# Altium footprint library TSOP86.PcbLib: 1 footprints
Each footprint in its own frame and in the unit in brackets; x right, y up, seen from the top. Pads: shape width x height; smd on the part's side, far side on the other; paste and mask are expansions set on the pad; w line width, h text height; cw(c..) or ccw(c..) is an arc to the next point about the centre after c.
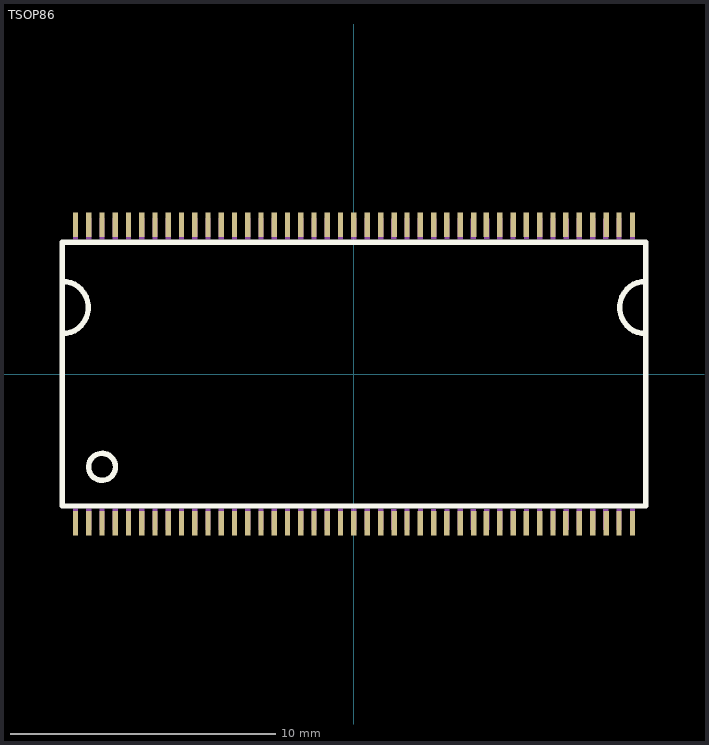
[diagram p0: the footprint, top view; thin cyan lines are the x and y axes]

## TSOP86 [mil]
pads (86):
  rect 8x36 smd: 1(-413.39,-221.65) 2(-393.7,-221.65) 3(-374.02,-221.65) 4(-354.33,-221.65) 5(-334.65,-221.65) 6(-314.96,-221.65) 7(-295.28,-221.65) 8(-275.59,-221.65) 9(-255.91,-221.65) 10(-236.22,-221.65) 11(-216.54,-221.65) 12(-196.85,-221.65) 13(-177.17,-221.65) 14(-157.48,-221.65) 15(-137.8,-221.65) 16(-118.11,-221.65) 17(-98.43,-221.65) 18(-78.74,-221.65) 19(-59.06,-221.65) 20(-39.37,-221.65) 21(-19.68,-221.65) 22(0,-221.65) 23(20,-221.65) 24(40,-221.65) 25(60,-221.65) 26(79,-221.65) 27(99,-221.65) 28(119,-221.65) 29(138,-221.65) 30(158,-221.65) 31(178,-221.65) 32(197,-221.65) 33(217,-221.65) 34(237,-221.65) 35(256,-221.65) 36(276,-221.65) 37(296,-221.65) 38(315,-221.65) 39(335,-221.65) 40(355,-221.65) 41(375,-221.65) 42(394,-221.65) 43(414,-221.65) 44(414,222) 45(394,222) 46(375,222) 47(355,222) 48(335,222) 49(315,222) 50(296,222) 51(276,222) 52(256,222) 53(237,222) 54(217,222) 55(197,222) 56(178,222) 57(158,222) 58(138,222) 59(119,222) 60(99,222) 61(79,222) 62(60,222) 63(40,222) 64(20,222) 65(0,222) 66(-19.68,222) 67(-39.37,222) 68(-59.06,222) 69(-78.74,222) 70(-98.43,222) 71(-118.11,222) 72(-137.8,222) 73(-157.48,222) 74(-177.17,222) 75(-196.85,222) 76(-216.54,222) 77(-236.22,222) 78(-255.91,222) 79(-275.59,222) 80(-295.28,222) 81(-314.96,222) 82(-334.65,222) 83(-354.33,222) 84(-374.02,222) 85(-393.7,222) 86(-413.39,222)
Top Overlay:
  circle w8: c-374.02,-137.8 r20
  lines w8: -433.4,60 ccw(c-433.4,99) -433.4,138 ; 434,60 cw(c434,99) 434,138 ; -433.4,-196 -433.4,196 434,196 434,-196 -433.4,-196
Mechanical 16:
  region: -409.45,-231.5 -409.45,-200 -417.32,-200 -417.32,-231.5
  region: -389.76,-231.5 -389.76,-200 -397.64,-200 -397.64,-231.5
  region: -370.08,-231.5 -370.08,-200 -377.95,-200 -377.95,-231.5
  region: -350.39,-231.5 -350.39,-200 -358.27,-200 -358.27,-231.5
  region: -330.71,-231.5 -330.71,-200 -338.58,-200 -338.58,-231.5
  region: -311.02,-231.5 -311.02,-200 -318.9,-200 -318.9,-231.5
  region: -291.34,-231.5 -291.34,-200 -299.21,-200 -299.21,-231.5
  region: -271.65,-231.5 -271.65,-200 -279.53,-200 -279.53,-231.5
  region: -251.97,-231.5 -251.97,-200 -259.84,-200 -259.84,-231.5
  region: -232.28,-231.5 -232.28,-200 -240.16,-200 -240.16,-231.5
  region: -212.6,-231.5 -212.6,-200 -220.47,-200 -220.47,-231.5
  region: -192.91,-231.5 -192.91,-200 -200.79,-200 -200.79,-231.5
  region: -173.23,-231.5 -173.23,-200 -181.1,-200 -181.1,-231.5
  region: -153.54,-231.5 -153.54,-200 -161.42,-200 -161.42,-231.5
  region: -133.86,-231.5 -133.86,-200 -141.73,-200 -141.73,-231.5
  region: -114.17,-231.5 -114.17,-200 -122.05,-200 -122.05,-231.5
  region: -94.49,-231.5 -94.49,-200 -102.36,-200 -102.36,-231.5
  region: -74.8,-231.5 -74.8,-200 -82.68,-200 -82.68,-231.5
  region: -55.12,-231.5 -55.12,-200 -62.99,-200 -62.99,-231.5
  region: -35.43,-231.5 -35.43,-200 -43.31,-200 -43.31,-231.5
  region: -15.75,-231.5 -15.75,-200 -23.62,-200 -23.62,-231.5
  region: 4.06,-231.62 4.06,-199.87 -3.81,-199.87 -3.81,-231.62
  region: 23.94,-231.75 23.94,-199.75 16.06,-199.75 16.06,-231.75
  region: 43.94,-231.75 43.94,-199.75 36.06,-199.75 36.06,-231.75
  region: 63.44,-231.25 63.44,-200.25 55.56,-200.25 55.56,-231.25
  region: 82.94,-231.75 82.94,-199.75 75.06,-199.75 75.06,-231.75
  region: 102.94,-231.75 102.94,-199.75 95.06,-199.75 95.06,-231.75
  region: 122.44,-231.25 122.44,-200.25 114.56,-200.25 114.56,-231.25
  region: 142.44,-231.25 142.44,-200.25 134.56,-200.25 134.56,-231.25
  region: 161.94,-231.75 161.94,-199.75 154.06,-199.75 154.06,-231.75
  region: 181.44,-231.25 181.44,-200.25 173.56,-200.25 173.56,-231.25
  region: 201.44,-231.25 201.44,-200.25 193.56,-200.25 193.56,-231.25
  region: 220.94,-231.75 220.94,-199.75 213.06,-199.75 213.06,-231.75
  region: 240.44,-231.25 240.44,-200.25 232.56,-200.25 232.56,-231.25
  region: 260.44,-231.25 260.44,-200.25 252.56,-200.25 252.56,-231.25
  region: 279.94,-231.75 279.94,-199.75 272.06,-199.75 272.06,-231.75
  region: 299.94,-231.75 299.94,-199.75 292.06,-199.75 292.06,-231.75
  region: 319.44,-231.25 319.44,-200.25 311.56,-200.25 311.56,-231.25
  region: 338.94,-231.75 338.94,-199.75 331.06,-199.75 331.06,-231.75
  region: 358.94,-231.75 358.94,-199.75 351.06,-199.75 351.06,-231.75
  region: 378.44,-231.25 378.44,-200.25 370.56,-200.25 370.56,-231.25
  region: 397.94,-231.75 397.94,-199.75 390.06,-199.75 390.06,-231.75
  region: 417.94,-231.75 417.94,-199.75 410.06,-199.75 410.06,-231.75
  region: 418,200 418,232 410,232 410,200
  region: 398,200 398,232 390,232 390,200
  region: 378.5,200.5 378.5,231.5 370.5,231.5 370.5,200.5
  region: 359,200 359,232 351,232 351,200
  region: 339,200 339,232 331,232 331,200
  region: 319.5,200.5 319.5,231.5 311.5,231.5 311.5,200.5
  region: 300,200 300,232 292,232 292,200
  region: 280,200 280,232 272,232 272,200
  region: 260.5,200.5 260.5,231.5 252.5,231.5 252.5,200.5
  region: 240.5,200.5 240.5,231.5 232.5,231.5 232.5,200.5
  region: 221,200 221,232 213,232 213,200
  region: 201.5,200.5 201.5,231.5 193.5,231.5 193.5,200.5
  region: 181.5,200.5 181.5,231.5 173.5,231.5 173.5,200.5
  region: 162,200 162,232 154,232 154,200
  region: 142.5,200.5 142.5,231.5 134.5,231.5 134.5,200.5
  region: 122.5,200.5 122.5,231.5 114.5,231.5 114.5,200.5
  region: 103,200 103,232 95,232 95,200
  region: 83,200 83,232 75,232 75,200
  region: 63.5,200.5 63.5,231.5 55.5,231.5 55.5,200.5
  region: 44,200 44,232 36,232 36,200
  region: 24,200 24,232 16,232 16,200
  region: 4.13,200.13 4.13,231.87 -3.87,231.87 -3.87,200.13
  region: -15.69,200.25 -15.69,231.75 -23.69,231.75 -23.69,200.25
  region: -35.37,200.25 -35.37,231.75 -43.37,231.75 -43.37,200.25
  region: -55.06,200.25 -55.06,231.75 -63.06,231.75 -63.06,200.25
  region: -74.74,200.25 -74.74,231.75 -82.74,231.75 -82.74,200.25
  region: -94.43,200.25 -94.43,231.75 -102.43,231.75 -102.43,200.25
  region: -114.11,200.25 -114.11,231.75 -122.11,231.75 -122.11,200.25
  region: -133.8,200.25 -133.8,231.75 -141.8,231.75 -141.8,200.25
  region: -153.48,200.25 -153.48,231.75 -161.48,231.75 -161.48,200.25
  region: -173.17,200.25 -173.17,231.75 -181.17,231.75 -181.17,200.25
  region: -192.85,200.25 -192.85,231.75 -200.85,231.75 -200.85,200.25
  region: -212.54,200.25 -212.54,231.75 -220.54,231.75 -220.54,200.25
  region: -232.22,200.25 -232.22,231.75 -240.22,231.75 -240.22,200.25
  region: -251.91,200.25 -251.91,231.75 -259.91,231.75 -259.91,200.25
  region: -271.59,200.25 -271.59,231.75 -279.59,231.75 -279.59,200.25
  region: -291.28,200.25 -291.28,231.75 -299.28,231.75 -299.28,200.25
  region: -310.96,200.25 -310.96,231.75 -318.96,231.75 -318.96,200.25
  region: -330.65,200.25 -330.65,231.75 -338.65,231.75 -338.65,200.25
  region: -350.33,200.25 -350.33,231.75 -358.33,231.75 -358.33,200.25
  region: -370.02,200.25 -370.02,231.75 -378.02,231.75 -378.02,200.25
  region: -389.7,200.25 -389.7,231.75 -397.7,231.75 -397.7,200.25
  region: -409.39,200.25 -409.39,231.75 -417.39,231.75 -417.39,200.25